# Altium footprint library PcbLib1.PcbLib: 5 footprints
Each footprint in its own frame and in the unit in brackets; x right, y up, seen from the top. Pads: shape width x height; smd on the part's side, far side on the other; paste and mask are expansions set on the pad; w line width, h text height; cw(c..) or ccw(c..) is an arc to the next point about the centre after c.
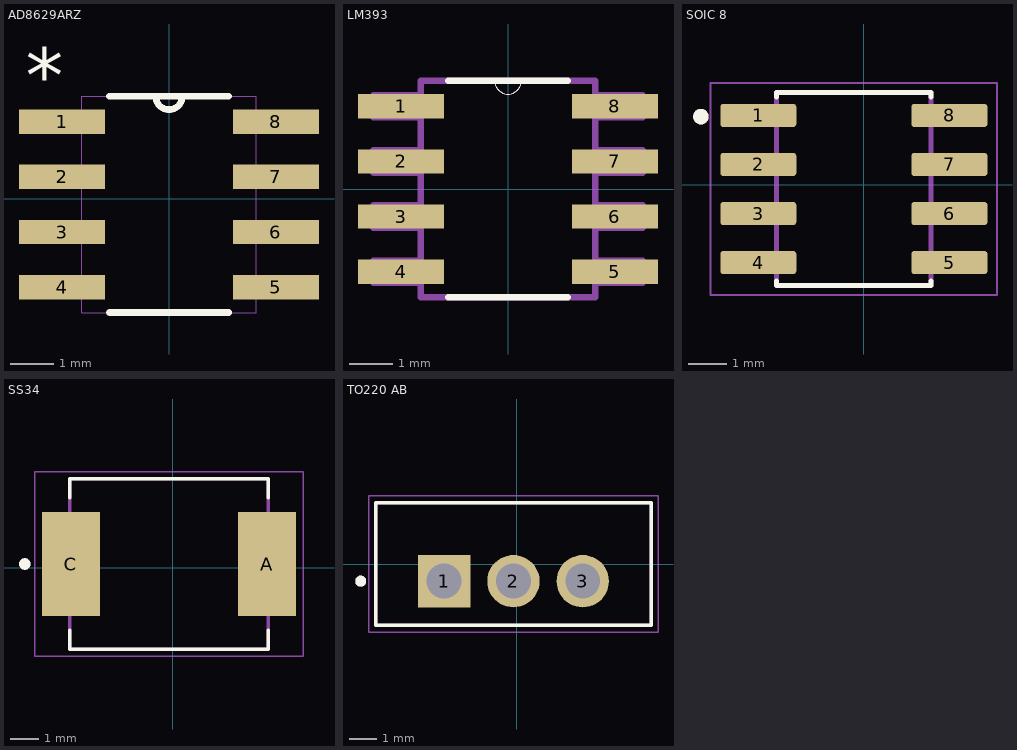
[diagram p0: the footprints below, top view; thin cyan lines are the x and y axes]

## AD8629ARZ [mil]
pads (8):
  rect 78x22 smd: 1(-97,70) 2(-97,20) 3(-97,-30) 4(-97,-80) 5(97,-80) 6(97,-30) 7(97,20) 8(97,70)
Top Overlay:
  lines w6: -54,-103 54,-103 ; -54,93 -12,93 ; 54,93 12,93 ; -12,93 ccw(c0,93) 12,93 ; -12,93 12,93
  text "*" at -130,87 h50
Mechanical 13:
  lines w0: -12,93 ccw(c0,93) 12,93 ; -12,93 -79,93 -79,-103 79,-103 79,93 12,93 ; -12,93 12,93 ; -122,-90 -79,-90 -79,-70 -122,-70 -122,-90 ; -122,-40 -79,-40 -79,-20 -122,-20 -122,-40 ; -122,10 -79,10 -79,30 -122,30 -122,10 ; -122,60 -79,60 -79,80 -122,80 -122,60 ; 79,-90 122,-90 122,-70 79,-70 79,-90 ; 79,-40 122,-40 122,-20 79,-20 79,-40 ; 79,10 122,10 122,30 79,30 79,10 ; 79,60 122,60 122,80 79,80 79,60
  text "*" at -130,87 h50
3D body "step_temp.STEP": height 68.9, standoff 0, extent -118.11,-101.46 118.11,91.46

## LM393 [mil]
pads (8):
  rect 78x22 smd: 1(-97,75) 2(-97,25) 3(-97,-25) 4(-97,-75) 5(97,-75) 6(97,-25) 7(97,25) 8(97,75)
Top Overlay:
  lines w0: -12,98 ccw(c0,98) 12,98
  lines w6: -54,-98 54,-98 ; -54,98 -12,98 12,98 54,98
Mechanical 13:
  lines w0: -12,98 ccw(c0,98) 12,98
  lines w6: -122,-85 -122,-65 -79,-65 -79,-85 -122,-85 ; -122,-35 -122,-15 -79,-15 -79,-35 -122,-35 ; -122,15 -122,35 -79,35 -79,15 -122,15 ; -122,65 -122,85 -79,85 -79,65 -122,65 ; -79,-98 79,-98 79,98 12,98 -12,98 -79,98 -79,-98 ; 79,-85 79,-65 122,-65 122,-85 79,-85 ; 79,-35 79,-15 122,-15 122,-35 79,-35 ; 79,15 79,35 122,35 122,15 79,15 ; 79,65 79,85 122,85 122,65 79,65
3D body "step_temp.STEP": height 68.9, standoff 0, extent -118.11,-96.46 118.11,96.46

## SOIC 8 [mm]
pads (8):
  rrect25% 1.97x0.6 smd: 1(-2.728,1.794) 2(-2.728,0.524) 3(-2.728,-0.746) 4(-2.728,-2.016) 5(2.222,-2.016) 6(2.222,-0.746) 7(2.222,0.524) 8(2.222,1.794)
Top Overlay:
  circle w0.2: c-4.217,1.764 r0.1
  lines w0.127: -2.253,-2.491 -2.253,-2.611 1.747,-2.611 1.747,-2.491 ; -2.253,2.269 -2.253,2.389 1.747,2.389 1.747,2.269
Mechanical 13:
  circle w0.2: c-4.217,1.764 r0.1
  lines w0.127: -2.253,-2.611 1.747,-2.611 1.747,2.389 -2.253,2.389 -2.253,-2.611
Mechanical 15:
  lines w0.05: -3.963,-2.861 3.457,-2.861 3.457,2.639 -3.963,2.639 -3.963,-2.861
3D body "step_temp.STEP": height 1.75, standoff 0, extent -3.253,-2.561 2.747,2.339

## SS34 [mm]
pads (2):
  rect 2x3.6 smd: A(3.273,0.127) C(-3.527,0.127)
Top Overlay:
  circle w0.2: c-5.127,0.127 r0.1
  lines w0.127: -3.564,-2.173 -3.564,-2.823 3.31,-2.823 3.31,-2.173 ; -3.564,2.427 -3.564,3.077 3.31,3.077 3.31,2.427
Mechanical 13:
  circle w0.2: c-5.127,0.127 r0.1
  lines w0.127: -3.564,-2.823 -3.564,3.077 3.31,3.077 3.31,-2.823 -3.564,-2.823
Mechanical 15:
  lines w0.05: -4.777,-3.073 -4.777,3.327 4.523,3.327 4.523,-3.073 -4.777,-3.073
3D body "step_temp.STEP": height 2.65, standoff 0, extent -4.102,-2.823 3.848,3.077

## TO220 AB [mm]
pads (3):
  rect 1.92x1.92 / inner round 1.92 / far side rect 1.92x1.92 hole 1.28: 1(-2.667,-0.63)
  round 1.92 hole 1.28: 2(-0.127,-0.63) 3(2.413,-0.63)
Top Overlay:
  circle w0.2: c-5.727,-0.63 r0.1
  lines w0.127: -5.177,-2.25 4.923,-2.25 4.923,2.25 -5.177,2.25 -5.177,-2.25
Mechanical 13:
  circle w0.2: c-5.727,-0.63 r0.1
  lines w0.127: -5.177,-2.25 4.923,-2.25 4.923,2.25 -5.177,2.25 -5.177,-2.25
Mechanical 15:
  lines w0.05: -5.427,-2.5 5.173,-2.5 5.173,2.5 -5.427,2.5 -5.427,-2.5
3D body "step_temp.STEP": height 18.9, standoff -10, extent -5.282,-2.25 5.028,2.25